# Altium footprint library con-subd.PCBLIB: 94 footprints (part 1 of 6)
Each footprint in its own frame and in the unit in brackets; x right, y up, seen from the top. Pads: shape width x height; smd on the part's side, far side on the other; paste and mask are expansions set on the pad; w line width, h text height; cw(c..) or ccw(c..) is an arc to the next point about the centre after c.
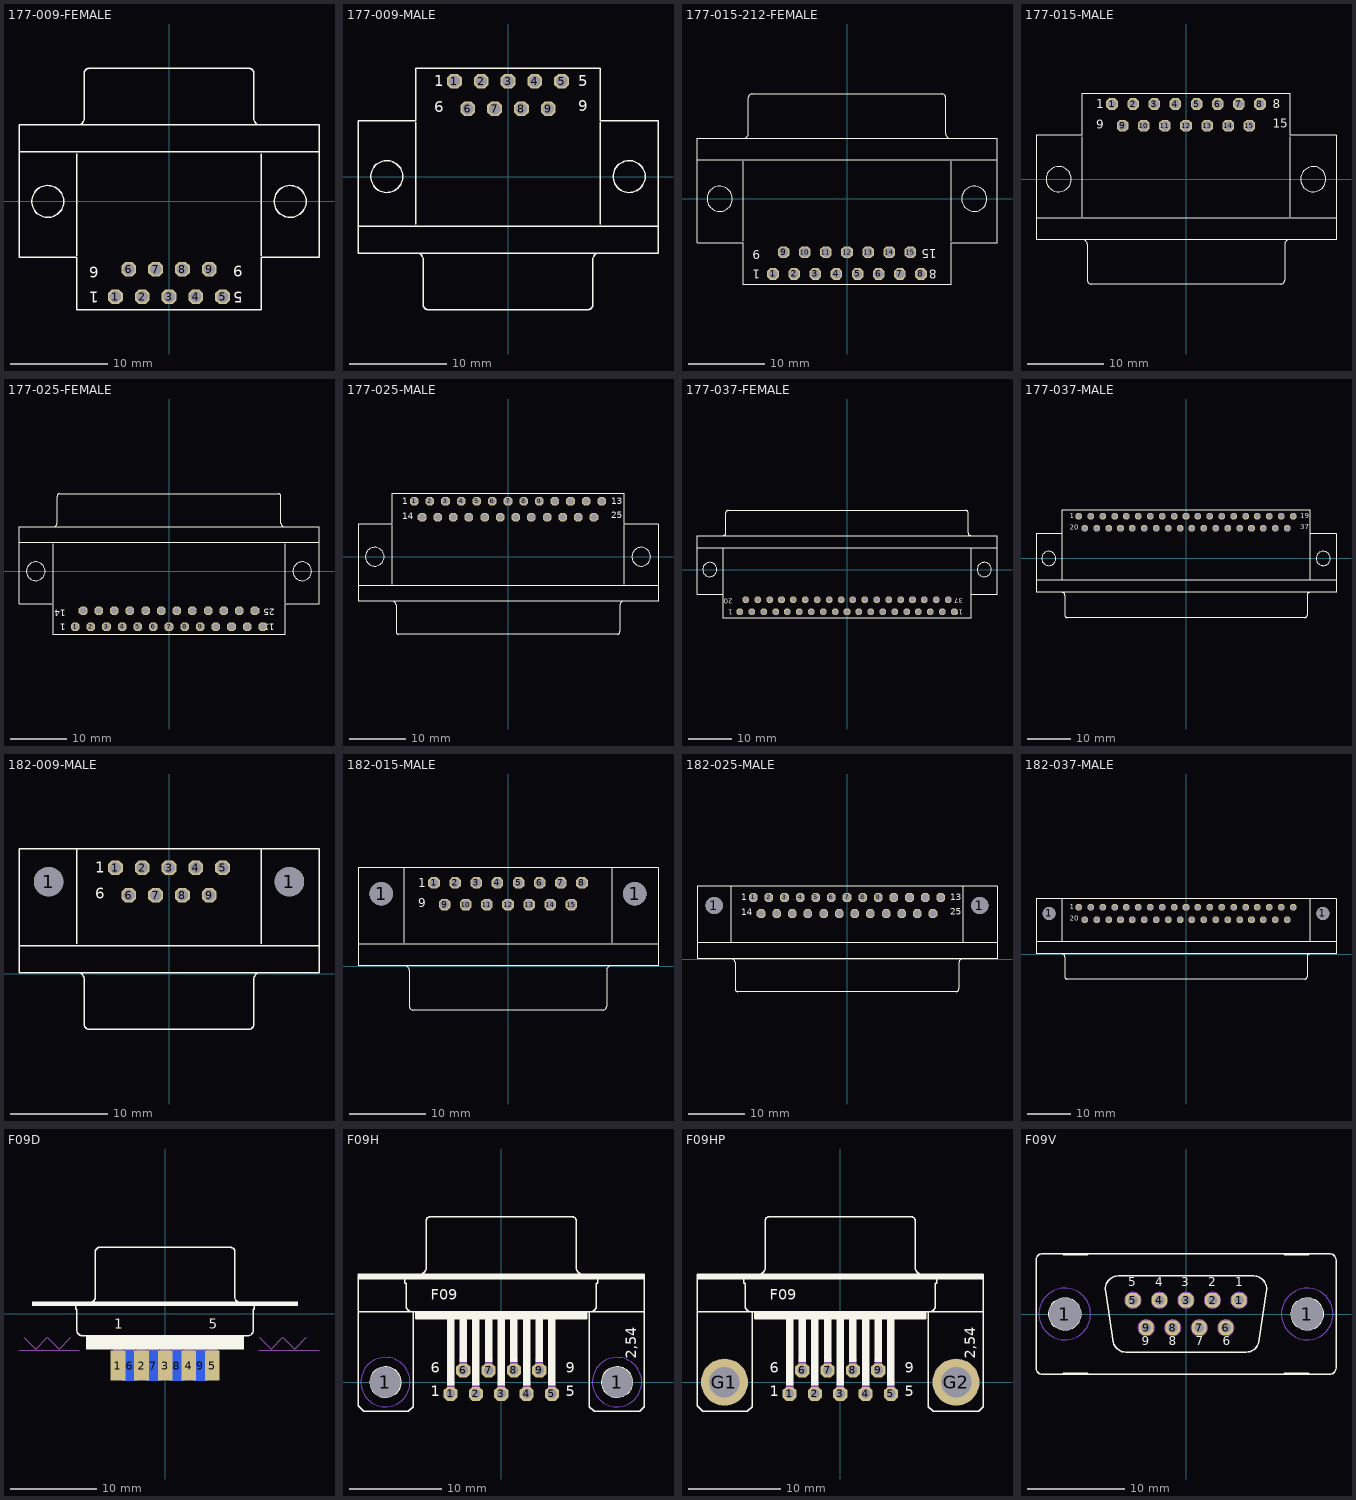
[diagram p0: the footprints below, top view; thin cyan lines are the x and y axes]

## 177-009-FEMALE [mil]
pads (9):
  oct 60x60 hole 47: 1(-218,-387.41) 2(-109,-387.41) 3(0,-387.41) 4(109,-387.41) 5(218,-387.41) 6(-163.5,-275.45) 7(-54.5,-275.45) 8(54.5,-275.45) 9(163.5,-275.45)
Top Overlay:
  circle w6: c-493,0 r65
  circle w6: c493,0 r65
  lines w6: -375,-219.96 -375,193.62 ; -370,311.38 ccw(c-370,336.38) -345,336.38 -345,521.38 cw(c-325,521.38) -325,541.38 325,541.38 cw(c325,521.38) 345,521.38 345,336.38 ccw(c370,336.38) 370,311.38 ; 375,-219.96 375,193.62 ; 610,201.38 -610,201.38 ; -610,201.38 -610,-226.38 -375,-226.38 -375,-439.96 375,-439.96 375,-226.38 610,-226.38 610,311.38 -610,311.38 -610,201.38
  text "5" at 300,-350.2 h77.5
  text "1" at -285,-350.2 h77.5
  text "6" at -285,-250.2 h77.5
  text "9" at 300,-245.2 h77.5

## 177-009-MALE [mil]
pads (9):
  oct 60x60 hole 47: 1(-218,387.41) 2(-109,387.41) 3(0,387.41) 4(109,387.41) 5(218,387.41) 6(-163.5,275.45) 7(-54.5,275.45) 8(54.5,275.45) 9(163.5,275.45)
Top Overlay:
  circle w6: c493,0 r65
  circle w6: c-493,0 r65
  lines w6: -610,-201.38 610,-201.38 ; -375,-193.62 -375,219.96 ; -370,-311.38 cw(c-370,-336.38) -345,-336.38 -345,-521.38 ccw(c-325,-521.38) -325,-541.38 325,-541.38 ccw(c325,-521.38) 345,-521.38 345,-336.38 cw(c370,-336.38) 370,-311.38 ; 375,-193.62 375,219.96 ; 610,-201.38 610,226.38 375,226.38 375,439.96 -375,439.96 -375,226.38 -610,226.38 -610,-311.38 610,-311.38 610,-201.38
  text "1" at -300,350.2 h77.5
  text "5" at 285,350.2 h77.5
  text "9" at 285,250.2 h77.5
  text "6" at -300,245.2 h77.5

## 177-015-212-FEMALE [mil]
pads (15):
  oct 60x60 hole 47: 1(-381.5,-387.41) 2(-272.5,-387.41) 3(-163.5,-387.41) 4(-54.5,-387.41) 5(54.5,-387.41) 6(163.5,-387.41) 7(272.5,-387.41) 8(381.5,-387.41) 9(-327,-275.45) 10(-218,-275.45) 11(-109,-275.45) 12(0,-275.45) 13(109,-275.45) 14(218,-275.45) 15(327,-275.45)
Top Overlay:
  circle w6: c-656.5,0 r65
  circle w6: c656.5,0 r65
  lines w6: -538.5,-219.96 -538.5,193.62 ; -533.5,311.38 ccw(c-533.5,336.38) -508.5,336.38 -508.5,521.38 cw(c-488.5,521.38) -488.5,541.38 488.5,541.38 cw(c488.5,521.38) 508.5,521.38 508.5,336.38 ccw(c533.5,336.38) 533.5,311.38 ; 538.5,-219.96 538.5,193.62 ; 773.5,201.38 -773.5,201.38 ; -773.5,201.38 -773.5,-226.38 -538.5,-226.38 -538.5,-439.96 538.5,-439.96 538.5,-226.38 773.5,-226.38 773.5,311.38 -773.5,311.38 -773.5,201.38
  text "8" at 463.5,-350.2 h77.5
  text "1" at -448.5,-350.2 h77.5
  text "9" at -448.5,-250.2 h77.5
  text "15" at 463.5,-245.2 h77.5

## 177-015-MALE [mil]
pads (15):
  oct 60x60 hole 47: 1(-381.5,387.41) 2(-272.5,387.41) 3(-163.5,387.41) 4(-54.5,387.41) 5(54.5,387.41) 6(163.5,387.41) 7(272.5,387.41) 8(381.5,387.41) 9(-327,275.45) 10(-218,275.45) 11(-109,275.45) 12(0,275.45) 13(109,275.45) 14(218,275.45) 15(327,275.45)
Top Overlay:
  circle w6: c656.5,0 r65
  circle w6: c-656.5,0 r65
  lines w6: -773.5,-201.38 773.5,-201.38 ; -538.5,-193.62 -538.5,219.96 ; -533.5,-311.38 cw(c-533.5,-336.38) -508.5,-336.38 -508.5,-521.38 ccw(c-488.5,-521.38) -488.5,-541.38 488.5,-541.38 ccw(c488.5,-521.38) 508.5,-521.38 508.5,-336.38 cw(c533.5,-336.38) 533.5,-311.38 ; 538.5,-193.62 538.5,219.96 ; 773.5,-201.38 773.5,226.38 538.5,226.38 538.5,439.96 -538.5,439.96 -538.5,226.38 -773.5,226.38 -773.5,-311.38 773.5,-311.38 773.5,-201.38
  text "1" at -463.5,350.2 h77.5
  text "8" at 448.5,350.2 h77.5
  text "15" at 448.5,250.2 h77.5
  text "9" at -463.5,245.2 h77.5

## 177-025-FEMALE [mil]
pads (25):
  oct 60x60 hole 47: 1(-654,-387.41) 2(-545,-387.41) 3(-436,-387.41) 4(-327,-387.41) 5(-218,-387.41) 6(-109,-387.41) 7(0,-387.41) 8(109,-387.41) 9(218,-387.41) 10(327,-387.41) 11(436,-387.41) 12(545,-387.41) 13(654,-387.41) 14(-599.5,-275.45) 15(-490.5,-275.45) 16(-381.5,-275.45) 17(-272.5,-275.45) 18(-163.5,-275.45) 19(-54.5,-275.45) 20(54.5,-275.45) 21(163.5,-275.45) 22(272.5,-275.45) 23(381.5,-275.45) 24(490.5,-275.45) 25(599.5,-275.45)
Top Overlay:
  circle w6: c-929,0 r65
  circle w6: c929,0 r65
  lines w6: -811,-219.96 -811,193.62 ; -806,311.38 ccw(c-806,336.38) -781,336.38 -781,521.38 cw(c-761,521.38) -761,541.38 761,541.38 cw(c761,521.38) 781,521.38 781,336.38 ccw(c806,336.38) 806,311.38 ; 811,-219.96 811,193.62 ; 1046,201.38 -1046,201.38 ; -1046,201.38 -1046,-226.38 -811,-226.38 -811,-439.96 811,-439.96 811,-226.38 1046,-226.38 1046,311.38 -1046,311.38 -1046,201.38
  text "13" at 736,-350.2 h77.5
  text "1" at -721,-350.2 h77.5
  text "14" at -721,-250.2 h77.5
  text "25" at 736,-245.2 h77.5

## 177-025-MALE [mil]
pads (25):
  oct 60x60 hole 47: 1(-654,387.41) 2(-545,387.41) 3(-436,387.41) 4(-327,387.41) 5(-218,387.41) 6(-109,387.41) 7(0,387.41) 8(109,387.41) 9(218,387.41) 10(327,387.41) 11(436,387.41) 12(545,387.41) 13(654,387.41) 14(-599.5,275.45) 15(-490.5,275.45) 16(-381.5,275.45) 17(-272.5,275.45) 18(-163.5,275.45) 19(-54.5,275.45) 20(54.5,275.45) 21(163.5,275.45) 22(272.5,275.45) 23(381.5,275.45) 24(490.5,275.45) 25(599.5,275.45)
Top Overlay:
  circle w6: c929,0 r65
  circle w6: c-929,0 r65
  lines w6: -1046,-201.38 1046,-201.38 ; -811,-193.62 -811,219.96 ; -806,-311.38 cw(c-806,-336.38) -781,-336.38 -781,-521.38 ccw(c-761,-521.38) -761,-541.38 761,-541.38 ccw(c761,-521.38) 781,-521.38 781,-336.38 cw(c806,-336.38) 806,-311.38 ; 811,-193.62 811,219.96 ; 1046,-201.38 1046,226.38 811,226.38 811,439.96 -811,439.96 -811,226.38 -1046,226.38 -1046,-311.38 1046,-311.38 1046,-201.38
  text "1" at -736,350.2 h77.5
  text "13" at 721,350.2 h77.5
  text "25" at 721,250.2 h77.5
  text "14" at -736,245.2 h77.5

## 177-037-FEMALE [mil]
pads (37):
  oct 60x60 hole 47: 1(-981,-387.41) 2(-872,-387.41) 3(-763,-387.41) 4(-654,-387.41) 5(-545,-387.41) 6(-436,-387.41) 7(-327,-387.41) 8(-218,-387.41) 9(-109,-387.41) 10(0,-387.41) 11(109,-387.41) 12(218,-387.41) 13(327,-387.41) 14(436,-387.41) 15(545,-387.41) 16(654,-387.41) 17(763,-387.41) 18(872,-387.41) 19(981,-387.41) 20(-926.5,-275.45) 21(-817.5,-275.45) 22(-708.5,-275.45) 23(-599.5,-275.45) 24(-490.5,-275.45) 25(-381.5,-275.45) 26(-272.5,-275.45) 27(-163.5,-275.45) 28(-54.5,-275.45) 29(54.5,-275.45) 30(163.5,-275.45) 31(272.5,-275.45) 32(381.5,-275.45) 33(490.5,-275.45) 34(599.5,-275.45) 35(708.5,-275.45) 36(817.5,-275.45) 37(926.5,-275.45)
Top Overlay:
  circle w6: c-1256,0 r65
  circle w6: c1256,0 r65
  lines w6: -1138,-219.96 -1138,193.62 ; -1133,311.38 ccw(c-1133,336.38) -1108,336.38 -1108,521.38 cw(c-1088,521.38) -1088,541.38 1088,541.38 cw(c1088,521.38) 1108,521.38 1108,336.38 ccw(c1133,336.38) 1133,311.38 ; 1138,-219.96 1138,193.62 ; 1373,201.38 -1373,201.38 ; -1373,201.38 -1373,-226.38 -1138,-226.38 -1138,-439.96 1138,-439.96 1138,-226.38 1373,-226.38 1373,311.38 -1373,311.38 -1373,201.38
  text "19" at 1063,-350.2 h77.5
  text "1" at -1048,-350.2 h77.5
  text "20" at -1048,-250.2 h77.5
  text "37" at 1063,-245.2 h77.5

## 177-037-MALE [mil]
pads (37):
  oct 60x60 hole 47: 1(-981,387.41) 2(-872,387.41) 3(-763,387.41) 4(-654,387.41) 5(-545,387.41) 6(-436,387.41) 7(-327,387.41) 8(-218,387.41) 9(-109,387.41) 10(0,387.41) 11(109,387.41) 12(218,387.41) 13(327,387.41) 14(436,387.41) 15(545,387.41) 16(654,387.41) 17(763,387.41) 18(872,387.41) 19(981,387.41) 20(-926.5,275.45) 21(-817.5,275.45) 22(-708.5,275.45) 23(-599.5,275.45) 24(-490.5,275.45) 25(-381.5,275.45) 26(-272.5,275.45) 27(-163.5,275.45) 28(-54.5,275.45) 29(54.5,275.45) 30(163.5,275.45) 31(272.5,275.45) 32(381.5,275.45) 33(490.5,275.45) 34(599.5,275.45) 35(708.5,275.45) 36(817.5,275.45) 37(926.5,275.45)
Top Overlay:
  circle w6: c1256,0 r65
  circle w6: c-1256,0 r65
  lines w6: -1373,-201.38 1373,-201.38 ; -1138,-193.62 -1138,219.96 ; -1133,-311.38 cw(c-1133,-336.38) -1108,-336.38 -1108,-521.38 ccw(c-1088,-521.38) -1088,-541.38 1088,-541.38 ccw(c1088,-521.38) 1108,-521.38 1108,-336.38 cw(c1133,-336.38) 1133,-311.38 ; 1138,-193.62 1138,219.96 ; 1373,-201.38 1373,226.38 1138,226.38 1138,439.96 -1138,439.96 -1138,226.38 -1373,226.38 -1373,-311.38 1373,-311.38 1373,-201.38
  text "1" at -1063,350.2 h77.5
  text "19" at 1048,350.2 h77.5
  text "37" at 1048,250.2 h77.5
  text "20" at -1063,245.2 h77.5

## 182-009-MALE [mil]
pads (11):
  round 120 hole 120: 1(-490,374.05) 1(490,374.05)
  oct 60x60 hole 47: 1(-218,430.05) 2(-109,430.05) 3(0,430.05) 4(109,430.05) 5(218,430.05) 6(-163.5,318.1) 7(-54.5,318.1) 8(54.5,318.1) 9(163.5,318.1)
Top Overlay:
  lines w6: -610,113.58 610,113.58 ; -610,506.89 -610,3.58 610,3.58 610,113.58 ; -610,507.58 610,507.58 ; -375,121.34 -375,506.89 ; -370,3.58 cw(c-370,-21.42) -345,-21.42 -345,-206.42 ccw(c-325,-206.42) -325,-226.42 325,-226.42 ccw(c325,-206.42) 345,-206.42 345,-21.42 cw(c370,-21.42) 370,3.58 ; 375,121.34 375,506.89 ; 610,506.89 610,113.58
  text "1" at -300,392.84 h77.5
  text "6" at -300,287.84 h77.5

## 182-015-MALE [mil]
pads (17):
  round 120 hole 120: 1(-653.5,374.05) 1(653.5,374.05)
  oct 60x60 hole 47: 1(-381.5,430.05) 2(-272.5,430.05) 3(-163.5,430.05) 4(-54.5,430.05) 5(54.5,430.05) 6(163.5,430.05) 7(272.5,430.05) 8(381.5,430.05) 9(-327,318.1) 10(-218,318.1) 11(-109,318.1) 12(0,318.1) 13(109,318.1) 14(218,318.1) 15(327,318.1)
Top Overlay:
  lines w6: -773.5,113.58 773.5,113.58 ; -773.5,506.89 -773.5,3.58 773.5,3.58 773.5,113.58 ; -773.5,507.58 773.5,507.58 ; -538.5,121.34 -538.5,506.89 ; -533.5,3.58 cw(c-533.5,-21.42) -508.5,-21.42 -508.5,-206.42 ccw(c-488.5,-206.42) -488.5,-226.42 488.5,-226.42 ccw(c488.5,-206.42) 508.5,-206.42 508.5,-21.42 cw(c533.5,-21.42) 533.5,3.58 ; 538.5,121.34 538.5,506.89 ; 773.5,506.89 773.5,113.58
  text "1" at -463.5,392.84 h77.5
  text "9" at -463.5,287.84 h77.5

## 182-025-MALE [mil]
pads (27):
  round 120 hole 120: 1(-926,374.05) 1(926,374.05)
  oct 60x60 hole 47: 1(-654,430.05) 2(-545,430.05) 3(-436,430.05) 4(-327,430.05) 5(-218,430.05) 6(-109,430.05) 7(0,430.05) 8(109,430.05) 9(218,430.05) 10(327,430.05) 11(436,430.05) 12(545,430.05) 13(654,430.05) 14(-599.5,318.1) 15(-490.5,318.1) 16(-381.5,318.1) 17(-272.5,318.1) 18(-163.5,318.1) 19(-54.5,318.1) 20(54.5,318.1) 21(163.5,318.1) 22(272.5,318.1) 23(381.5,318.1) 24(490.5,318.1) 25(599.5,318.1)
Top Overlay:
  lines w6: -1046,113.58 1046,113.58 ; -1046,506.89 -1046,3.58 1046,3.58 1046,113.58 ; -1046,507.58 1046,507.58 ; -811,121.34 -811,506.89 ; -806,3.58 cw(c-806,-21.42) -781,-21.42 -781,-206.42 ccw(c-761,-206.42) -761,-226.42 761,-226.42 ccw(c761,-206.42) 781,-206.42 781,-21.42 cw(c806,-21.42) 806,3.58 ; 811,121.34 811,506.89 ; 1046,506.89 1046,113.58
  text "1" at -736,392.84 h77.5
  text "13" at 721,392.84 h77.5
  text "25" at 721,292.84 h77.5
  text "14" at -736,287.84 h77.5

## 182-037-MALE [mil]
pads (39):
  round 120 hole 120: 1(-1253,374.05) 1(1253,374.05)
  oct 60x60 hole 47: 1(-981,430.05) 2(-872,430.05) 3(-763,430.05) 4(-654,430.05) 5(-545,430.05) 6(-436,430.05) 7(-327,430.05) 8(-218,430.05) 9(-109,430.05) 10(0,430.05) 11(109,430.05) 12(218,430.05) 13(327,430.05) 14(436,430.05) 15(545,430.05) 16(654,430.05) 17(763,430.05) 18(872,430.05) 19(981,430.05) 20(-926.5,318.1) 21(-817.5,318.1) 22(-708.5,318.1) 23(-599.5,318.1) 24(-490.5,318.1) 25(-381.5,318.1) 26(-272.5,318.1) 27(-163.5,318.1) 28(-54.5,318.1) 29(54.5,318.1) 30(163.5,318.1) 31(272.5,318.1) 32(381.5,318.1) 33(490.5,318.1) 34(599.5,318.1) 35(708.5,318.1) 36(817.5,318.1) 37(926.5,318.1)
Top Overlay:
  lines w6: -1373,113.58 1373,113.58 ; -1373,506.89 -1373,3.58 1373,3.58 1373,113.58 ; -1373,507.58 1373,507.58 ; -1138,121.34 -1138,506.89 ; -1133,3.58 cw(c-1133,-21.42) -1108,-21.42 -1108,-206.42 ccw(c-1088,-206.42) -1088,-226.42 1088,-226.42 ccw(c1088,-206.42) 1108,-206.42 1108,-21.42 cw(c1133,-21.42) 1133,3.58 ; 1138,121.34 1138,506.89 ; 1373,506.89 1373,113.58
  text "1" at -1063,392.84 h77.5
  text "20" at -1063,287.84 h77.5

## F09D [mil]
pads (9):
  rect 66.93x137.8 smd: 1(-215.99,-237.98) 2(-108.01,-237.98) 3(0,-237.99) 4(108.01,-237.98) 5(215.99,-237.98)
  rect 66.93x137.8 smd far side: 6(-162,-238) 7(-54,-238) 8(54,-238) 9(162,-238)
Top Overlay:
  rectangle: -610,36.06 610,56.06
  rectangle: -362.2,-163.78 362.2,-100.79
  lines w6: -410,40 -410,20 -405,20 -405,-75 ccw(c-380,-75) -380,-100 ; -380.75,-100 380.75,-100 ; -345,52.13 ccw(c-345,77.13) -320,77.13 -320,285 cw(c-300,285) -300,305 300,305 cw(c300,285) 320,285 320,77.13 ccw(c345,77.13) 345,52.13 ; 380,-100 ccw(c380,-75) 405,-75 405,20 410,20 410,40
  text "1" at -233.07,-85.77 h77.5
  text "5" at 200.2,-85.77 h77.5
Bottom Overlay:
  text "9" at 178.81,-86.48 h77.5
  text "6" at -140.82,-86.48 h77.5
Mechanical 13:
  lines w0: -670,-167 -394,-167 ; -648,-108 -594,-162 -540,-108 -486,-162 -432,-108 ; 430,-167 706,-167 ; 432,-108 486,-162 540,-108 594,-162 648,-108
  text "Board" at 450,-100 h77.5
  text "Board" at -650,-100 h77.5
Mechanical 16:
  rectangle: -239.62,-258.27 -192.38,-159.84
  rectangle: -131.62,-258.27 -84.38,-159.84
  rectangle: -23.62,-258.27 23.62,-159.84
  rectangle: 84.38,-258.27 131.62,-159.84
  rectangle: 192.38,-258.27 239.62,-159.84
  text "F09D" at -300,235 h77.5
Mechanical 30:
  rectangle: -185.62,-258.27 -138.38,-159.84
  rectangle: -77.62,-258.27 -30.38,-159.84
  rectangle: 30.38,-258.27 77.62,-159.84
  rectangle: 138.38,-258.27 185.62,-159.84

## F09H [mil]
pads (11):
  round 130 hole 130: 1(-493,0) 1(493,0)
  oct 60x60 hole 40: 1(-216,-50) 2(-108,-50) 3(0,-50) 4(108,-50) 5(216,-50) 6(-162,50) 7(-54,50) 8(54,50) 9(162,50)
Bottom Layer keep-out:
  circle w0: c-493,0 r105
  circle w0: c493,0 r105
Top Overlay:
  circle w6: c-493,0 r65
  circle w6: c493,0 r65
  rectangle: -365,270 365,300
  rectangle: -610,440 610,460
  rectangle: -232,-15 -200,270
  rectangle: -178,85 -146,270
  rectangle: -124,-15 -92,270
  rectangle: -70,85 -38,270
  rectangle: -16,-15 16,270
  rectangle: 38,85 70,270
  rectangle: 92,-15 124,270
  rectangle: 146,85 178,270
  rectangle: 200,-15 232,270
  lines w6: -380,300 cw(c-380,325) -405,325 -405,420 -410,420 -410,440 ; -345,460 ccw(c-345,485) -320,485 -320,685 cw(c-300,685) -300,705 -290,705 290,705 300,705 cw(c300,685) 320,685 320,485 ccw(c345,485) 345,460 ; 380,300 ccw(c380,325) 405,325 405,420 410,420 410,440 ; -610,300 -410,300 -375,300 ; -610,300 -610,420 -610,440 ; -610,300 -610,295 -610,-100 -585,-125 -395,-125 -375,-105 -375,300 ; -610,440 -610,460 -305,460 305,460 610,460 610,440 ; -610,440 -510,440 -410,440 ; -410,440 410,440 ; -375,300 -365,300 ; -365,300 -365,270 365,270 365,300 ; -365,300 365,300 ; 365,300 375,300 ; 375,300 410,300 610,300 ; 375,300 375,-105 395,-125 590,-125 610,-105 610,295 610,300 ; 410,440 510,440 610,440 ; 610,300 610,420 610,440
  text "1" at -300,-75 h77.5
  text "5" at 275,-75 h77.5
  text "9" at 275,25 h77.5
  text "6" at -300,25 h77.5
  text "2,54" at 590,100 h77.5
  text "F09" at -300,335 h77.5
Mechanical 16:
  lines w32: -216,-45 -216,-5 ; -162,55 -162,95 ; -108,-45 -108,-5 ; -54,55 -54,95 ; 0,-45 0,-5 ; 54,55 54,95 ; 108,-45 108,-5 ; 162,55 162,95 ; 216,-45 216,-5
Via Holes:
  circle w0: c-493,0 r105
  circle w0: c493,0 r105

## F09HP [mil]
pads (11):
  oct 60x60 hole 40: 1(-216,-50) 2(-108,-50) 3(0,-50) 4(108,-50) 5(216,-50) 6(-162,50) 7(-54,50) 8(54,50) 9(162,50)
  round 200 hole 130: G1(-493,0) G2(493,0)
Top Overlay:
  circle w6: c-493,0 r65
  circle w6: c493,0 r65
  rectangle: -365,270 365,300
  rectangle: -610,440 610,460
  rectangle: -232,-15 -200,270
  rectangle: -178,85 -146,270
  rectangle: -124,-15 -92,270
  rectangle: -70,85 -38,270
  rectangle: -17,-15 15,270
  rectangle: 37,85 69,270
  rectangle: 92,-15 124,270
  rectangle: 146,85 178,270
  rectangle: 200,-15 232,270
  lines w6: -380,300 cw(c-380,325) -405,325 -405,420 -410,420 -410,440 ; -345,460 ccw(c-345,485) -320,485 -320,685 cw(c-300,685) -300,705 -290,705 290,705 300,705 cw(c300,685) 320,685 320,485 ccw(c345,485) 345,460 ; 380,300 ccw(c380,325) 405,325 405,420 410,420 410,440 ; -610,300 -410,300 -375,300 ; -610,300 -610,420 -610,440 ; -610,300 -610,295 -610,-100 -585,-125 -395,-125 -375,-105 -375,300 ; -610,440 -610,460 -305,460 305,460 610,460 610,440 ; -610,440 -510,440 -410,440 ; -410,440 410,440 ; -375,300 -365,300 ; -365,300 -365,270 365,270 365,300 ; -365,300 365,300 ; 365,300 375,300 ; 375,300 410,300 610,300 ; 375,300 375,-105 395,-125 590,-125 610,-105 610,295 610,300 ; 410,440 510,440 610,440 ; 610,300 610,420 610,440
  text "1" at -300,-75 h77.5
  text "5" at 275,-75 h77.5
  text "9" at 275,25 h77.5
  text "6" at -300,25 h77.5
  text "2,54" at 590,100 h77.5
  text "F09" at -300,335 h77.5
Mechanical 16:
  lines w32: -216,-45 -216,-5 ; -162,55 -162,95 ; -108,-45 -108,-5 ; -54,55 -54,95 ; 0,-45 0,-5 ; 53,55 53,95 ; 108,-45 108,-5 ; 162,55 162,95 ; 216,-45 216,-5

## F09V [mil]
pads (11):
  round 130 hole 130: 1(-493,0) 1(493,0)
  oct 60x60 hole 40: 1(216,56) 2(108,56) 3(0,56) 4(-108,56) 5(-216,56) 6(162,-56) 7(54,-56) 8(-54,-56) 9(-162,-56)
Bottom Layer keep-out:
  circle w0: c-493,0 r105
  circle w0: c493,0 r105
Top Overlay:
  circle w6: c-493,0 r65
  circle w6: c493,0 r65
  lines w6: -327,92 -296,-116 ; -326.97,91.61 cw(c-275,102) -275,155 275,155 cw(c275,101.99) 326.79,90.7 ; -296.3,-115.33 ccw(c-245,-101.99) -245,-155 245,-155 ccw(c244.99,-102) 296.52,-114.37 ; 296,-115 327,91 ; -500,-245 -500,-240 -400,-240 -400,-245 ; -500,-245 -400,-245 ; -500,-245 -585,-245 cw(c-585,-220) -610,-220 -610,220 cw(c-585,220) -585,245 -500,245 ; -500,245 -500,240 -400,240 -400,245 ; -500,245 -400,245 ; -400,-245 400,-245 ; -400,245 400,245 ; 400,-245 400,-240 500,-240 500,-245 ; 400,-245 500,-245 ; 400,245 400,240 500,240 500,245 ; 400,245 500,245 ; 500,-245 585,-245 ccw(c585,-220) 610,-220 610,220 ccw(c585,220) 585,245 500,245
  text "1" at 200,100 h60.45
  text "2" at 90,100 h60.45
  text "3" at -20,100 h60.45
  text "4" at -125,100 h60.45
  text "5" at -235,100 h60.45
  text "6" at 150,-140 h60.45
  text "7" at 40,-140 h60.45
  text "8" at -70,-140 h60.45
  text "9" at -180,-140 h60.45
Mechanical 16:
  circle w10: c54,-56 r30
  circle w10: c108,56 r30
  circle w10: c162,-56 r30
  circle w10: c216,56 r30
  circle w10: c0,56 r30
  circle w10: c-54,-56 r30
  circle w10: c-108,56 r30
  circle w10: c-162,-56 r30
  circle w10: c-216,56 r30
Via Holes:
  circle w0: c-493,0 r105
  circle w0: c493,0 r105